# Altium schematic symbol library MCP2542 TDFN.SchLib: 1 symbol
Pins are listed as number, name and electrical type; pins without a type are passive.

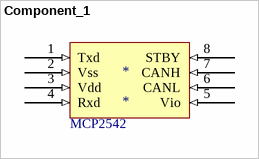
[diagram p0: symbol Component_1]

## Component_1
designator *
footprint TDFN-8
pins: 1 Txd (in), 2 Vss (in), 3 Vdd (in), 4 Rxd (in), 5 Vio (in), 6 CANL (in), 7 CANH (in), 8 STBY (in)
text: MCP2542